# Altium schematic symbol library SW_Lib.SchLib: 1 symbol
Pins are listed as number, name and electrical type; pins without a type are passive.

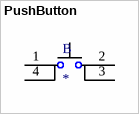
[diagram p0: symbol PushButton]

## PushButton
designator B
footprint SW 6mm
pins: 1 Gnd (power), 2 Gnd (power), 3 Gnd (power), 4 Gnd (power)